# Altium footprint library Resistors.PcbLib: 29 footprints (part 2 of 2)
Each footprint in its own frame and in the unit in brackets; x right, y up, seen from the top. Pads: shape width x height; smd on the part's side, far side on the other; paste and mask are expansions set on the pad; w line width, h text height; cw(c..) or ccw(c..) is an arc to the next point about the centre after c.
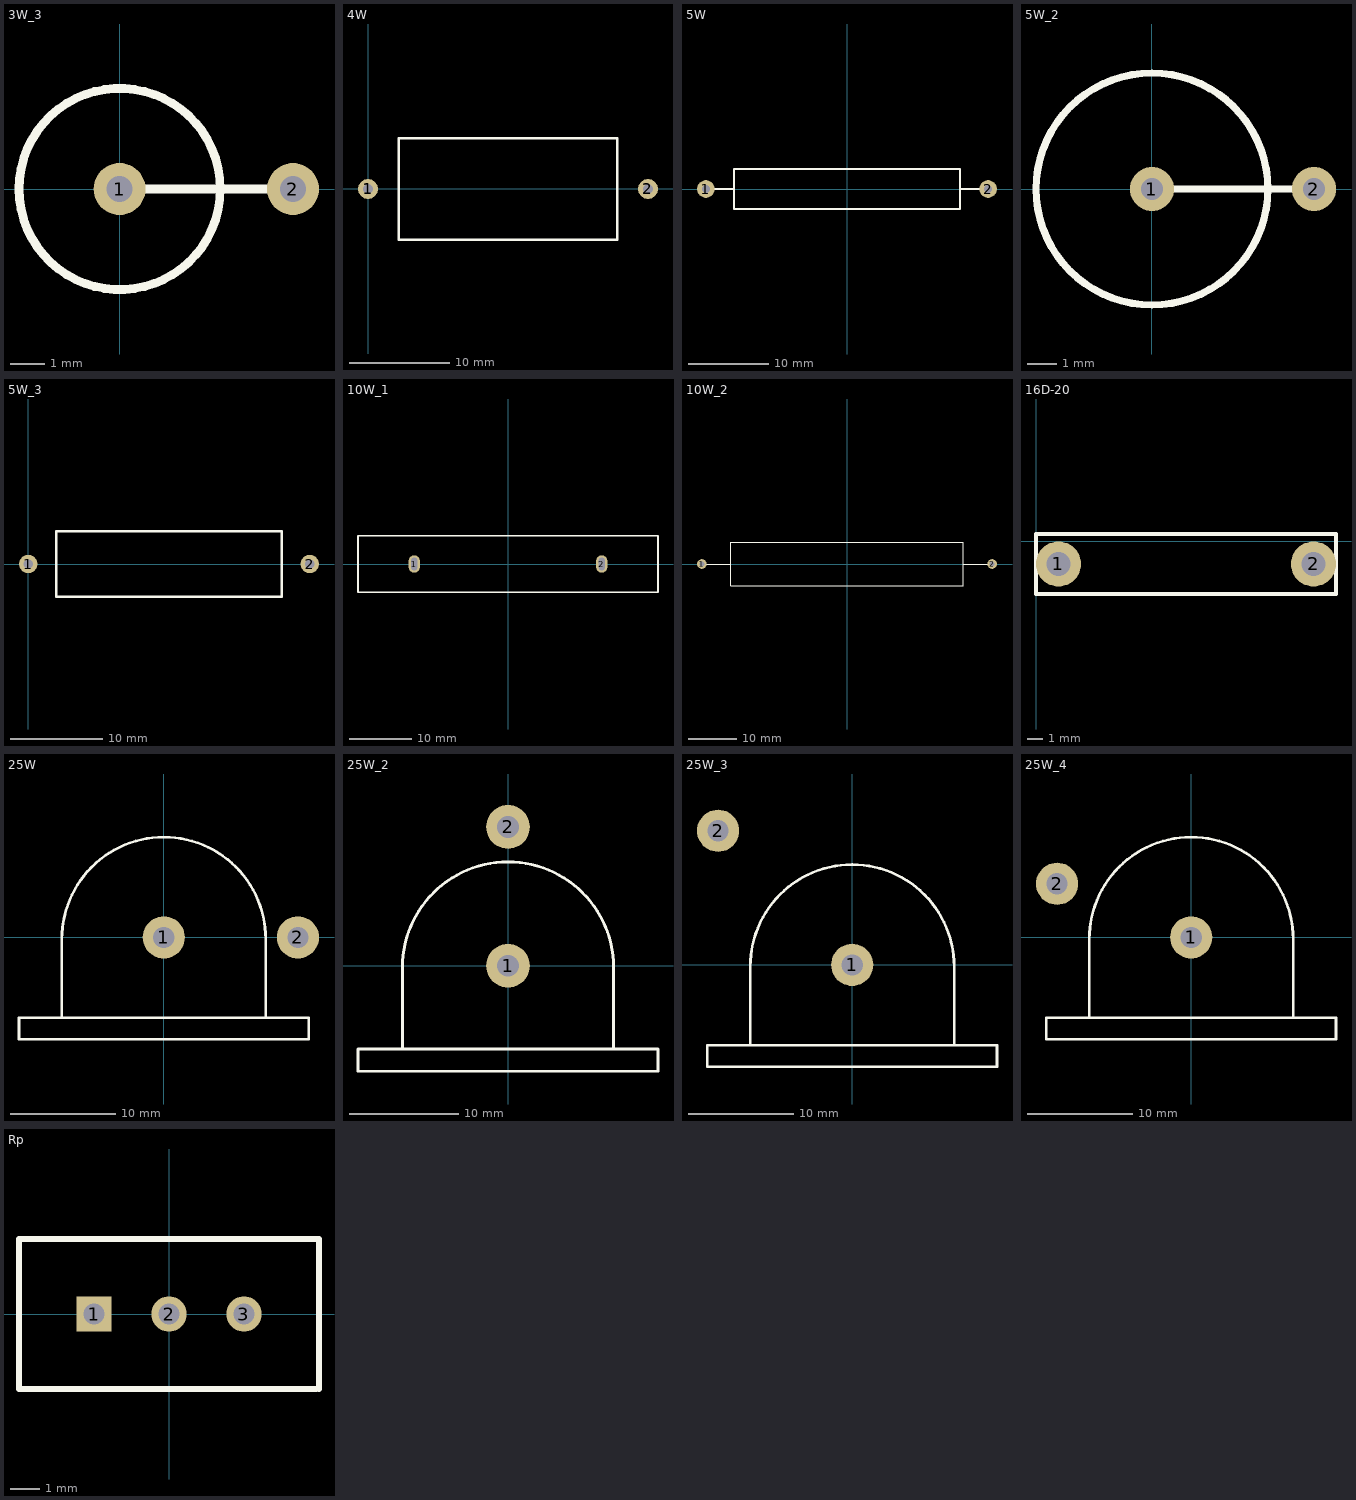
[diagram p1: the footprints below, top view; thin cyan lines are the x and y axes]

## 3W_3 [mil]
pads (2):
  round 60 hole 30: 1(0,0) 2(200,0)
Top Overlay:
  circle w10: c0,0 r116.14
  lines w10: 0,0 200,0

## 4W [mm]
pads (2):
  round 2 hole 1: 1(0,0) 2(27.94,0)
Top Overlay:
  lines w0.254: 3.048,-5.08 3.048,5.08 24.892,5.08 24.892,-5.08 3.048,-5.08

## 5W [mm]
pads (2):
  round 2.2 hole 1: 1(-17.5,0) 2(17.5,0)
Top Overlay:
  lines w0.254: -17,0 -14,0 ; 14,0 17,0 ; -14,-2.5 -14,2.5 14,2.5 14,-2.5 -14,-2.5

## 5W_2 [mil]
pads (2):
  round 60 hole 30: 1(0,0) 2(220,0)
Top Overlay:
  circle w10: c0,0 r157.48
  lines w10: 0,0 220,0

## 5W_3 [mm]
pads (2):
  round 2 hole 1: 1(0,0) 2(30.48,0)
Top Overlay:
  lines w0.254: 3.048,-3.556 3.048,3.556 27.432,3.556 27.432,-3.556 3.048,-3.556

## 10W_1 [mm]
height 34
pads (2):
  oval 1.8x2.8 hole 1 slot 2 at 90 deg: 1(-15,0) 2(15,0)
Top Overlay:
  lines w0.254: -24,-4.5 24,-4.5 24,4.5 -24,4.5 -24,-4.5

## 10W_2 [mm]
height 9
pads (2):
  round 2 hole 1: 1(-30,0) 2(30,0)
Top Overlay:
  lines w0.254: -30,0 -24,0 ; 24,0 30,0 ; -24,-4.5 24,-4.5 24,4.5 -24,4.5 -24,-4.5

## 16D-20 [mm]
pads (2):
  round 3 hole 1.6: 1(1.5,-1.5) 2(18.5,-1.5)
Top Overlay:
  lines w0.254: 0,-3.5 0,0.5 20,0.5 20,-3.5 0,-3.5

## 25W [mm]
pads (2):
  round 4 hole 2: 1(0,0) 2(12.7,0)
Top Overlay:
  lines w0.254: -9.652,-7.62 -9.652,-0.152 cw(c0,-0.152) 9.652,-0.152 ; 9.652,-7.468 9.652,0 ; -13.716,-9.652 13.716,-9.652 13.716,-7.62 -13.716,-7.62 -13.716,-9.652

## 25W_2 [mm]
pads (2):
  round 4 hole 2: 1(0,0) 2(0,12.7)
Top Overlay:
  lines w0.254: -9.652,-7.62 -9.652,-0.152 cw(c0,-0.152) 9.652,-0.152 ; 9.652,-7.468 9.652,0 ; -13.716,-9.652 -13.716,-7.62 13.716,-7.62 13.716,-9.652 -13.716,-9.652

## 25W_3 [mm]
pads (2):
  round 4 hole 2: 1(0,0) 2(-12.7,12.7)
Top Overlay:
  lines w0.254: -9.652,-7.62 -9.652,-0.152 cw(c0,-0.152) 9.652,-0.152 ; 9.652,-7.468 9.652,0 ; -13.716,-9.652 -13.716,-7.62 13.716,-7.62 13.716,-9.652 -13.716,-9.652

## 25W_4 [mm]
pads (2):
  round 4 hole 2: 1(0,0) 2(-12.7,5.08)
Top Overlay:
  lines w0.254: -9.652,-7.62 -9.652,-0.152 cw(c0,-0.152) 9.652,-0.152 ; 9.652,-7.468 9.652,0 ; -13.716,-9.652 -13.716,-7.62 13.716,-7.62 13.716,-9.652 -13.716,-9.652

## Rp [mm] "Thru-Hole; 3 Leads"
pads (3):
  rect 1.2x1.2 hole 0.7: 1(-2.54,0)
  round 1.2 hole 0.7: 2(0,0) 3(2.54,0)
Top Overlay:
  lines w0.2: 5,-2.54 -5.08,-2.54 -5.08,2.54 5.08,2.54 5.08,-2.54